# Altium schematic symbol library kmilo17pet-LT_PMIC_LT.SchLib: 2252 symbols (part 88 of 124)
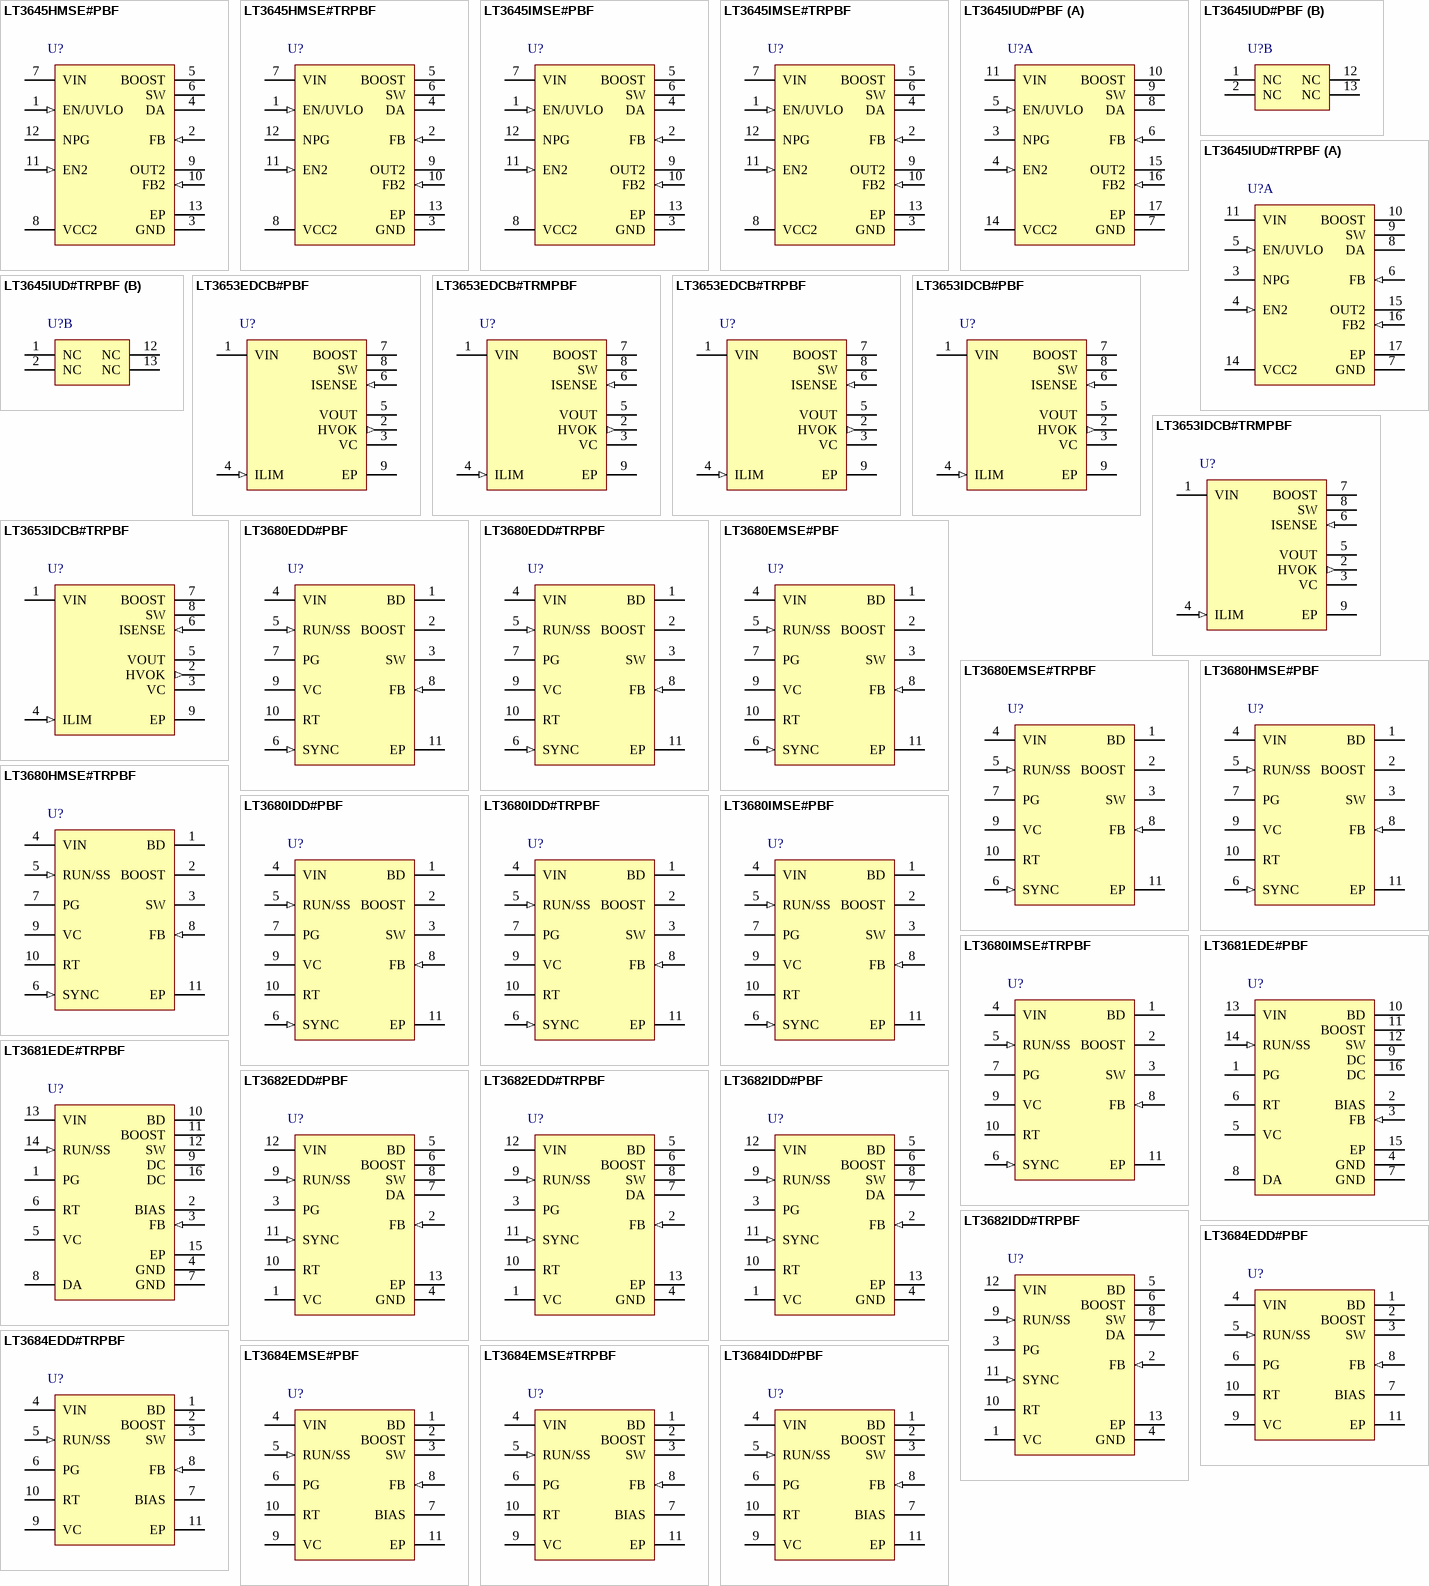
[diagram p158: symbols LT3645HMSE#PBF to LT3684IDD#PBF]

## LT3684EMSE#PBF
designator U?
2 A, 2.8 MHz Step-Down Switching Regulator, 10-pin SOP (MSE-10-EDP), -40 to 85 degC, Pb-Free; Manufacturer: Linear Technology; PartNumber: LT3684EMSE#PBF; Number of Outputs: 1; PackageReference: MSE-10; PackageDescription: 10-Pin Plastic MSOP, Exposed Die Pad, Body 3 x 3 mm, Pitch 0.5 mm; Supplier 1: Digi-Key; Supplier Part Number 1: LT3684EMSE#PBF-ND; RoHS: TRUE
footprint LT-MSE-10-EDP-2060x1830TP_N (SOP, 10-Leads, Body 3.1x3.1mm, Pitch 0.5mm, Thermal Pad 2.17x1.94mm, IPC Medium Density)
footprint LT-MSE-10-EDP-2060x1830TP_L (SOP, 10-Leads, Body 3.1x3.1mm, Pitch 0.5mm, Thermal Pad 2.17x1.94mm, IPC High Density)
footprint LT-MSE-10-EDP-2060x1830TP_M (SOP, 10-Leads, Body 3.1x3.1mm, Pitch 0.5mm, Thermal Pad 2.17x1.94mm, IPC Low Density)
pins: 1 BD (power) "This pin connects to the anode of the boost Schottky diode.", 2 BOOST "This pin is used to provide a drive voltage, higher than the input voltage, to the internal bipolar NPN power switch.", 3 SW (power) "The SW pin is the output of the internal power switch. Connect this pin to the inductor, catch diode and boost capacitor.", 4 VIN (power) "The VIN pin supplies current to the LT3684’s internal regulator and to the internal power switch. This pin must be locally bypassed.", 5 RUN/SS (in) "The RUN/SS pin is used to put the LT3684 in shutdown mode. Tie to ground to shut down the LT3684. Tie to 2.3V or more for normal operation. If the shutdown feature is not used, tie this pin to the VIN pin. RUN/SS also (See Datasheet)", 6 PG (oc) "The PG pin is the open collector output of an internal comparator. PG remains low until the FB pin is within 10% of the final regulation voltage. PG output is valid when VIN is above 3.5V and RUN/SS is high.", 7 BIAS (power) "The BIAS pin supplies the current to the LT3684’s internal regulator. Tie this pin to the lowest available voltage source above 3V (typically VOUT). This architecture increases effi ciency especially when the input voltag(See Datasheet)", 8 FB (in) "The LT3684 regulates the FB pin to 1.265V. Connect the feedback resistor divider tap to this pin.", 9 VC "The VC pin is the output of the internal error amplifier. The voltage on this pin controls the peak switch current. Tie an RC network from this pin to ground to compensate the control loop.", 10 RT "Oscillator Resistor Input. Connecting a resistor to ground from this pin sets the switching frequency.", 11 EP (power) "Ground. The Exposed Pad must be soldered to PCB."

## LT3684EMSE#TRPBF
designator U?
2 A, 2.8 MHz Step-Down Switching Regulator, 10-pin SOP (MSE-10-EDP), -40 to 85 degC, Pb-Free, Tape and Reel; Manufacturer: Linear Technology; PartNumber: LT3684EMSE#TRPBF; Number of Outputs: 1; PackageReference: MSE-10; PackageDescription: 10-Pin Plastic MSOP, Exposed Die Pad, Body 3 x 3 mm, Pitch 0.5 mm; Supplier 1: Digi-Key; Supplier Part Number 1: LT3684EMSE#TRPBF-ND; RoHS: TRUE
footprint LT-MSE-10-EDP-2060x1830TP_N (SOP, 10-Leads, Body 3.1x3.1mm, Pitch 0.5mm, Thermal Pad 2.17x1.94mm, IPC Medium Density)
footprint LT-MSE-10-EDP-2060x1830TP_L (SOP, 10-Leads, Body 3.1x3.1mm, Pitch 0.5mm, Thermal Pad 2.17x1.94mm, IPC High Density)
footprint LT-MSE-10-EDP-2060x1830TP_M (SOP, 10-Leads, Body 3.1x3.1mm, Pitch 0.5mm, Thermal Pad 2.17x1.94mm, IPC Low Density)
pins: 1 BD (power) "This pin connects to the anode of the boost Schottky diode.", 2 BOOST "This pin is used to provide a drive voltage, higher than the input voltage, to the internal bipolar NPN power switch.", 3 SW (power) "The SW pin is the output of the internal power switch. Connect this pin to the inductor, catch diode and boost capacitor.", 4 VIN (power) "The VIN pin supplies current to the LT3684’s internal regulator and to the internal power switch. This pin must be locally bypassed.", 5 RUN/SS (in) "The RUN/SS pin is used to put the LT3684 in shutdown mode. Tie to ground to shut down the LT3684. Tie to 2.3V or more for normal operation. If the shutdown feature is not used, tie this pin to the VIN pin. RUN/SS also (See Datasheet)", 6 PG (oc) "The PG pin is the open collector output of an internal comparator. PG remains low until the FB pin is within 10% of the final regulation voltage. PG output is valid when VIN is above 3.5V and RUN/SS is high.", 7 BIAS (power) "The BIAS pin supplies the current to the LT3684’s internal regulator. Tie this pin to the lowest available voltage source above 3V (typically VOUT). This architecture increases effi ciency especially when the input voltag(See Datasheet)", 8 FB (in) "The LT3684 regulates the FB pin to 1.265V. Connect the feedback resistor divider tap to this pin.", 9 VC "The VC pin is the output of the internal error amplifier. The voltage on this pin controls the peak switch current. Tie an RC network from this pin to ground to compensate the control loop.", 10 RT "Oscillator Resistor Input. Connecting a resistor to ground from this pin sets the switching frequency.", 11 EP (power) "Ground. The Exposed Pad must be soldered to PCB."

## LT3684IDD#PBF
designator U?
2 A, 2.8 MHz Step-Down Switching Regulator, 10-pin SON (DD-10), -40 to 125 degC, Pb-Free; Manufacturer: Linear Technology; PartNumber: LT3684IDD#PBF; Number of Outputs: 1; PackageReference: DD-10; PackageDescription: 10-Pin Plastic DFN, Body 3 x 3 mm, Pitch 0.5 mm; Supplier 1: Digi-Key; Supplier Part Number 1: LT3684IDD#PBF-ND; RoHS: TRUE
footprint LT-DD-10_V (SON, 10-Leads, Body 3x3mm, Pitch 0.5mm, Thermal Pad 2.38x1.65mm)
pins: 1 BD (power) "This pin connects to the anode of the boost Schottky diode.", 2 BOOST "This pin is used to provide a drive voltage, higher than the input voltage, to the internal bipolar NPN power switch.", 3 SW (power) "The SW pin is the output of the internal power switch. Connect this pin to the inductor, catch diode and boost capacitor.", 4 VIN (power) "The VIN pin supplies current to the LT3684’s internal regulator and to the internal power switch. This pin must be locally bypassed.", 5 RUN/SS (in) "The RUN/SS pin is used to put the LT3684 in shutdown mode. Tie to ground to shut down the LT3684. Tie to 2.3V or more for normal operation. If the shutdown feature is not used, tie this pin to the VIN pin. RUN/SS also (See Datasheet)", 6 PG (oc) "The PG pin is the open collector output of an internal comparator. PG remains low until the FB pin is within 10% of the final regulation voltage. PG output is valid when VIN is above 3.5V and RUN/SS is high.", 7 BIAS (power) "The BIAS pin supplies the current to the LT3684’s internal regulator. Tie this pin to the lowest available voltage source above 3V (typically VOUT). This architecture increases effi ciency especially when the input voltag(See Datasheet)", 8 FB (in) "The LT3684 regulates the FB pin to 1.265V. Connect the feedback resistor divider tap to this pin.", 9 VC "The VC pin is the output of the internal error amplifier. The voltage on this pin controls the peak switch current. Tie an RC network from this pin to ground to compensate the control loop.", 10 RT "Oscillator Resistor Input. Connecting a resistor to ground from this pin sets the switching frequency.", 11 EP (power) "Ground. The Exposed Pad must be soldered to PCB."

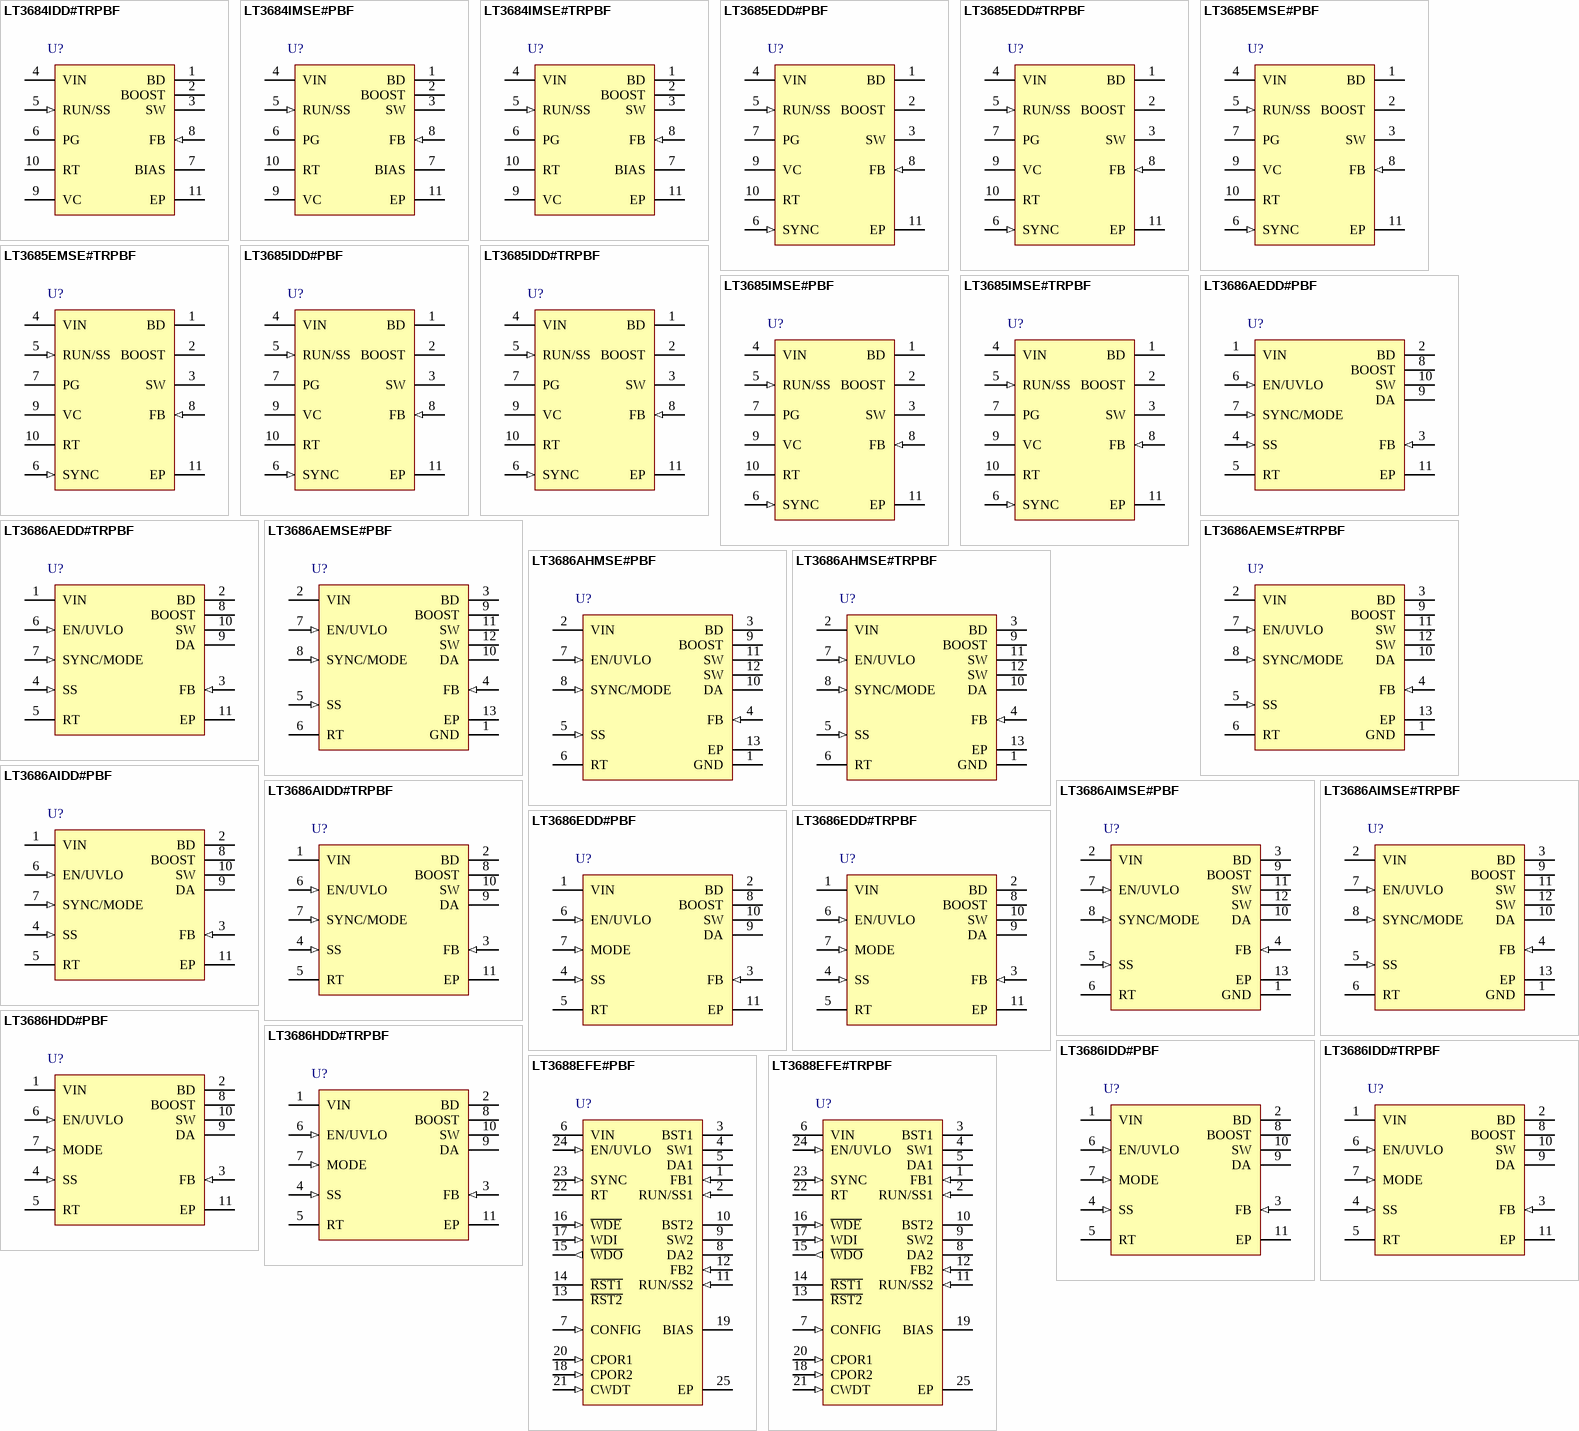
[diagram p52: symbols LT3684IDD#TRPBF to LT3688EFE#TRPBF]

## LT3684IDD#TRPBF
designator U?
2 A, 2.8 MHz Step-Down Switching Regulator, 10-pin SON (DD-10), -40 to 125 degC, Pb-Free, Tape and Reel; Manufacturer: Linear Technology; PartNumber: LT3684IDD#TRPBF; Number of Outputs: 1; PackageReference: DD-10; PackageDescription: 10-Pin Plastic DFN, Body 3 x 3 mm, Pitch 0.5 mm; Supplier 1: Digi-Key; Supplier Part Number 1: LT3684IDD#TRPBF-ND; RoHS: TRUE
footprint LT-DD-10_V (SON, 10-Leads, Body 3x3mm, Pitch 0.5mm, Thermal Pad 2.38x1.65mm)
pins: 1 BD (power) "This pin connects to the anode of the boost Schottky diode.", 2 BOOST "This pin is used to provide a drive voltage, higher than the input voltage, to the internal bipolar NPN power switch.", 3 SW (power) "The SW pin is the output of the internal power switch. Connect this pin to the inductor, catch diode and boost capacitor.", 4 VIN (power) "The VIN pin supplies current to the LT3684’s internal regulator and to the internal power switch. This pin must be locally bypassed.", 5 RUN/SS (in) "The RUN/SS pin is used to put the LT3684 in shutdown mode. Tie to ground to shut down the LT3684. Tie to 2.3V or more for normal operation. If the shutdown feature is not used, tie this pin to the VIN pin. RUN/SS also (See Datasheet)", 6 PG (oc) "The PG pin is the open collector output of an internal comparator. PG remains low until the FB pin is within 10% of the final regulation voltage. PG output is valid when VIN is above 3.5V and RUN/SS is high.", 7 BIAS (power) "The BIAS pin supplies the current to the LT3684’s internal regulator. Tie this pin to the lowest available voltage source above 3V (typically VOUT). This architecture increases effi ciency especially when the input voltag(See Datasheet)", 8 FB (in) "The LT3684 regulates the FB pin to 1.265V. Connect the feedback resistor divider tap to this pin.", 9 VC "The VC pin is the output of the internal error amplifier. The voltage on this pin controls the peak switch current. Tie an RC network from this pin to ground to compensate the control loop.", 10 RT "Oscillator Resistor Input. Connecting a resistor to ground from this pin sets the switching frequency.", 11 EP (power) "Ground. The Exposed Pad must be soldered to PCB."

## LT3684IMSE#PBF
designator U?
2 A, 2.8 MHz Step-Down Switching Regulator, 10-pin SOP (MSE-10-EDP), -40 to 125 degC, Pb-Free; Manufacturer: Linear Technology; PartNumber: LT3684IMSE#PBF; Number of Outputs: 1; PackageReference: MSE-10; PackageDescription: 10-Pin Plastic MSOP, Exposed Die Pad, Body 3 x 3 mm, Pitch 0.5 mm; Supplier 1: Digi-Key; Supplier Part Number 1: LT3684IMSE#PBF-ND; RoHS: TRUE
footprint LT-MSE-10-EDP-2060x1830TP_N (SOP, 10-Leads, Body 3.1x3.1mm, Pitch 0.5mm, Thermal Pad 2.17x1.94mm, IPC Medium Density)
footprint LT-MSE-10-EDP-2060x1830TP_L (SOP, 10-Leads, Body 3.1x3.1mm, Pitch 0.5mm, Thermal Pad 2.17x1.94mm, IPC High Density)
footprint LT-MSE-10-EDP-2060x1830TP_M (SOP, 10-Leads, Body 3.1x3.1mm, Pitch 0.5mm, Thermal Pad 2.17x1.94mm, IPC Low Density)
pins: 1 BD (power) "This pin connects to the anode of the boost Schottky diode.", 2 BOOST "This pin is used to provide a drive voltage, higher than the input voltage, to the internal bipolar NPN power switch.", 3 SW (power) "The SW pin is the output of the internal power switch. Connect this pin to the inductor, catch diode and boost capacitor.", 4 VIN (power) "The VIN pin supplies current to the LT3684’s internal regulator and to the internal power switch. This pin must be locally bypassed.", 5 RUN/SS (in) "The RUN/SS pin is used to put the LT3684 in shutdown mode. Tie to ground to shut down the LT3684. Tie to 2.3V or more for normal operation. If the shutdown feature is not used, tie this pin to the VIN pin. RUN/SS also (See Datasheet)", 6 PG (oc) "The PG pin is the open collector output of an internal comparator. PG remains low until the FB pin is within 10% of the final regulation voltage. PG output is valid when VIN is above 3.5V and RUN/SS is high.", 7 BIAS (power) "The BIAS pin supplies the current to the LT3684’s internal regulator. Tie this pin to the lowest available voltage source above 3V (typically VOUT). This architecture increases effi ciency especially when the input voltag(See Datasheet)", 8 FB (in) "The LT3684 regulates the FB pin to 1.265V. Connect the feedback resistor divider tap to this pin.", 9 VC "The VC pin is the output of the internal error amplifier. The voltage on this pin controls the peak switch current. Tie an RC network from this pin to ground to compensate the control loop.", 10 RT "Oscillator Resistor Input. Connecting a resistor to ground from this pin sets the switching frequency.", 11 EP (power) "Ground. The Exposed Pad must be soldered to PCB."

## LT3684IMSE#TRPBF
designator U?
2 A, 2.8 MHz Step-Down Switching Regulator, 10-pin SOP (MSE-10-EDP), -40 to 125 degC, Pb-Free, Tape and Reel; Manufacturer: Linear Technology; PartNumber: LT3684IMSE#TRPBF; Number of Outputs: 1; PackageReference: MSE-10; PackageDescription: 10-Pin Plastic MSOP, Exposed Die Pad, Body 3 x 3 mm, Pitch 0.5 mm; Supplier 1: Digi-Key; Supplier Part Number 1: LT3684IMSE#TRPBF-ND; RoHS: TRUE
footprint LT-MSE-10-EDP-2060x1830TP_N (SOP, 10-Leads, Body 3.1x3.1mm, Pitch 0.5mm, Thermal Pad 2.17x1.94mm, IPC Medium Density)
footprint LT-MSE-10-EDP-2060x1830TP_L (SOP, 10-Leads, Body 3.1x3.1mm, Pitch 0.5mm, Thermal Pad 2.17x1.94mm, IPC High Density)
footprint LT-MSE-10-EDP-2060x1830TP_M (SOP, 10-Leads, Body 3.1x3.1mm, Pitch 0.5mm, Thermal Pad 2.17x1.94mm, IPC Low Density)
pins: 1 BD (power) "This pin connects to the anode of the boost Schottky diode.", 2 BOOST "This pin is used to provide a drive voltage, higher than the input voltage, to the internal bipolar NPN power switch.", 3 SW (power) "The SW pin is the output of the internal power switch. Connect this pin to the inductor, catch diode and boost capacitor.", 4 VIN (power) "The VIN pin supplies current to the LT3684’s internal regulator and to the internal power switch. This pin must be locally bypassed.", 5 RUN/SS (in) "The RUN/SS pin is used to put the LT3684 in shutdown mode. Tie to ground to shut down the LT3684. Tie to 2.3V or more for normal operation. If the shutdown feature is not used, tie this pin to the VIN pin. RUN/SS also (See Datasheet)", 6 PG (oc) "The PG pin is the open collector output of an internal comparator. PG remains low until the FB pin is within 10% of the final regulation voltage. PG output is valid when VIN is above 3.5V and RUN/SS is high.", 7 BIAS (power) "The BIAS pin supplies the current to the LT3684’s internal regulator. Tie this pin to the lowest available voltage source above 3V (typically VOUT). This architecture increases effi ciency especially when the input voltag(See Datasheet)", 8 FB (in) "The LT3684 regulates the FB pin to 1.265V. Connect the feedback resistor divider tap to this pin.", 9 VC "The VC pin is the output of the internal error amplifier. The voltage on this pin controls the peak switch current. Tie an RC network from this pin to ground to compensate the control loop.", 10 RT "Oscillator Resistor Input. Connecting a resistor to ground from this pin sets the switching frequency.", 11 EP (power) "Ground. The Exposed Pad must be soldered to PCB."

## LT3685EDD#PBF
designator U?
2 A, 2.4 MHz Step Down Switching Regulator, 10-pin SON (DD-10), -40 to 125 degC, Pb-Free; Manufacturer: Linear Technology; PartNumber: LT3685EDD#PBF; Number of Outputs: 1; PackageReference: DD-10; PackageDescription: 10-Pin Plastic DFN, Body 3 x 3 mm, Pitch 0.5 mm; Supplier 1: Digi-Key; Supplier Part Number 1: LT3685EDD#PBF-ND; RoHS: TRUE
footprint LT-DD-10_V (SON, 10-Leads, Body 3x3mm, Pitch 0.5mm, Thermal Pad 2.38x1.65mm)
pins: 1 BD (power) "This pin connects to the anode of the boost Schottky diode. BD also supplies current to the internal regulator.", 2 BOOST "This pin is used to provide a drive voltage, higher than the input voltage, to the internal bipolar NPN power switch.", 3 SW (power) "The SW pin is the output of the internal power switch. Connect this pin to the inductor, catch diode and boost capacitor.", 4 VIN (power) "The VIN pin supplies current to internal regulator and to the internal power switch. This pin must be locally bypassed.", 5 RUN/SS (in) "If the shutdown feature is not used, tie this pin to the VIN pin. RUN/SS also provides a soft-start function; see the Applications Information section.", 6 SYNC (in) "This is the external clock synchronization input. Ground this pin for low ripple Burst Mode operation at low output loads. Tie to a clock source for synchronization. Clock edges should have rise and fall times faster than (See Datasheet)", 7 PG (oc) "The PG pin is the open collector output of an internal comparator. PG remains low until the FB pin is within 9% of the final regulation voltage. PG output is valid when VIN is above 3.6V and RUN/SS is high.", 8 FB (in) "Connect the feedback resistor divider tap to this pin.", 9 VC "The VC pin is the output of the internal error amplifier. The voltage on this pin controls the peak switch current. Tie an RC network from this pin to ground to compensate the control loop.", 10 RT "Oscillator Resistor Input. Connecting a resistor to ground from this pin sets the switching frequency.", 11 EP (power) "Ground. The Exposed Pad must be soldered to PCB."

## LT3685EDD#TRPBF
designator U?
2 A, 2.4 MHz Step Down Switching Regulator, 10-pin SON (DD-10), -40 to 125 degC, Pb-Free, Tape and Reel; Manufacturer: Linear Technology; PartNumber: LT3685EDD#TRPBF; Number of Outputs: 1; PackageReference: DD-10; PackageDescription: 10-Pin Plastic DFN, Body 3 x 3 mm, Pitch 0.5 mm; Supplier 1: Digi-Key; Supplier Part Number 1: LT3685EDD#TRPBF-ND; RoHS: TRUE
footprint LT-DD-10_V (SON, 10-Leads, Body 3x3mm, Pitch 0.5mm, Thermal Pad 2.38x1.65mm)
pins: 1 BD (power) "This pin connects to the anode of the boost Schottky diode. BD also supplies current to the internal regulator.", 2 BOOST "This pin is used to provide a drive voltage, higher than the input voltage, to the internal bipolar NPN power switch.", 3 SW (power) "The SW pin is the output of the internal power switch. Connect this pin to the inductor, catch diode and boost capacitor.", 4 VIN (power) "The VIN pin supplies current to internal regulator and to the internal power switch. This pin must be locally bypassed.", 5 RUN/SS (in) "If the shutdown feature is not used, tie this pin to the VIN pin. RUN/SS also provides a soft-start function; see the Applications Information section.", 6 SYNC (in) "This is the external clock synchronization input. Ground this pin for low ripple Burst Mode operation at low output loads. Tie to a clock source for synchronization. Clock edges should have rise and fall times faster than (See Datasheet)", 7 PG (oc) "The PG pin is the open collector output of an internal comparator. PG remains low until the FB pin is within 9% of the final regulation voltage. PG output is valid when VIN is above 3.6V and RUN/SS is high.", 8 FB (in) "Connect the feedback resistor divider tap to this pin.", 9 VC "The VC pin is the output of the internal error amplifier. The voltage on this pin controls the peak switch current. Tie an RC network from this pin to ground to compensate the control loop.", 10 RT "Oscillator Resistor Input. Connecting a resistor to ground from this pin sets the switching frequency.", 11 EP (power) "Ground. The Exposed Pad must be soldered to PCB."

## LT3685EMSE#PBF
designator U?
2 A, 2.4 MHz Step Down Switching Regulator, 10-pin SOP (MSE-10-EDP), -40 to 125 degC, Pb-Free; Manufacturer: Linear Technology; PartNumber: LT3685EMSE#PBF; Number of Outputs: 1; PackageReference: MSE-10; PackageDescription: 10-Pin Plastic MSOP, Exposed Die Pad, Body 3 x 3 mm, Pitch 0.5 mm; Supplier 1: Digi-Key; Supplier Part Number 1: LT3685EMSE#PBF-ND; RoHS: TRUE
footprint LT-MSE-10-EDP-2060x1830TP_N (SOP, 10-Leads, Body 3.1x3.1mm, Pitch 0.5mm, Thermal Pad 2.17x1.94mm, IPC Medium Density)
footprint LT-MSE-10-EDP-2060x1830TP_L (SOP, 10-Leads, Body 3.1x3.1mm, Pitch 0.5mm, Thermal Pad 2.17x1.94mm, IPC High Density)
footprint LT-MSE-10-EDP-2060x1830TP_M (SOP, 10-Leads, Body 3.1x3.1mm, Pitch 0.5mm, Thermal Pad 2.17x1.94mm, IPC Low Density)
pins: 1 BD (power) "This pin connects to the anode of the boost Schottky diode. BD also supplies current to the internal regulator.", 2 BOOST "This pin is used to provide a drive voltage, higher than the input voltage, to the internal bipolar NPN power switch.", 3 SW (power) "The SW pin is the output of the internal power switch. Connect this pin to the inductor, catch diode and boost capacitor.", 4 VIN (power) "The VIN pin supplies current to internal regulator and to the internal power switch. This pin must be locally bypassed.", 5 RUN/SS (in) "If the shutdown feature is not used, tie this pin to the VIN pin. RUN/SS also provides a soft-start function; see the Applications Information section.", 6 SYNC (in) "This is the external clock synchronization input. Ground this pin for low ripple Burst Mode operation at low output loads. Tie to a clock source for synchronization. Clock edges should have rise and fall times faster than (See Datasheet)", 7 PG (oc) "The PG pin is the open collector output of an internal comparator. PG remains low until the FB pin is within 9% of the final regulation voltage. PG output is valid when VIN is above 3.6V and RUN/SS is high.", 8 FB (in) "Connect the feedback resistor divider tap to this pin.", 9 VC "The VC pin is the output of the internal error amplifier. The voltage on this pin controls the peak switch current. Tie an RC network from this pin to ground to compensate the control loop.", 10 RT "Oscillator Resistor Input. Connecting a resistor to ground from this pin sets the switching frequency.", 11 EP (power) "Ground. The Exposed Pad must be soldered to PCB."

## LT3685EMSE#TRPBF
designator U?
2 A, 2.4 MHz Step Down Switching Regulator, 10-pin SOP (MSE-10-EDP), -40 to 125 degC, Pb-Free, Tape and Reel; Manufacturer: Linear Technology; PartNumber: LT3685EMSE#TRPBF; Number of Outputs: 1; PackageReference: MSE-10; PackageDescription: 10-Pin Plastic MSOP, Exposed Die Pad, Body 3 x 3 mm, Pitch 0.5 mm; Supplier 1: Digi-Key; Supplier Part Number 1: LT3685EMSE#TRPBF-ND; RoHS: TRUE
footprint LT-MSE-10-EDP-2060x1830TP_N (SOP, 10-Leads, Body 3.1x3.1mm, Pitch 0.5mm, Thermal Pad 2.17x1.94mm, IPC Medium Density)
footprint LT-MSE-10-EDP-2060x1830TP_L (SOP, 10-Leads, Body 3.1x3.1mm, Pitch 0.5mm, Thermal Pad 2.17x1.94mm, IPC High Density)
footprint LT-MSE-10-EDP-2060x1830TP_M (SOP, 10-Leads, Body 3.1x3.1mm, Pitch 0.5mm, Thermal Pad 2.17x1.94mm, IPC Low Density)
pins: 1 BD (power) "This pin connects to the anode of the boost Schottky diode. BD also supplies current to the internal regulator.", 2 BOOST "This pin is used to provide a drive voltage, higher than the input voltage, to the internal bipolar NPN power switch.", 3 SW (power) "The SW pin is the output of the internal power switch. Connect this pin to the inductor, catch diode and boost capacitor.", 4 VIN (power) "The VIN pin supplies current to internal regulator and to the internal power switch. This pin must be locally bypassed.", 5 RUN/SS (in) "If the shutdown feature is not used, tie this pin to the VIN pin. RUN/SS also provides a soft-start function; see the Applications Information section.", 6 SYNC (in) "This is the external clock synchronization input. Ground this pin for low ripple Burst Mode operation at low output loads. Tie to a clock source for synchronization. Clock edges should have rise and fall times faster than (See Datasheet)", 7 PG (oc) "The PG pin is the open collector output of an internal comparator. PG remains low until the FB pin is within 9% of the final regulation voltage. PG output is valid when VIN is above 3.6V and RUN/SS is high.", 8 FB (in) "Connect the feedback resistor divider tap to this pin.", 9 VC "The VC pin is the output of the internal error amplifier. The voltage on this pin controls the peak switch current. Tie an RC network from this pin to ground to compensate the control loop.", 10 RT "Oscillator Resistor Input. Connecting a resistor to ground from this pin sets the switching frequency.", 11 EP (power) "Ground. The Exposed Pad must be soldered to PCB."

## LT3685IDD#PBF
designator U?
2 A, 2.4 MHz Step Down Switching Regulator, 10-pin SON (DD-10), -40 to 125 degC, Pb-Free; Manufacturer: Linear Technology; PartNumber: LT3685IDD#PBF; Number of Outputs: 1; PackageReference: DD-10; PackageDescription: 10-Pin Plastic DFN, Body 3 x 3 mm, Pitch 0.5 mm; Supplier 1: Digi-Key; Supplier Part Number 1: LT3685IDD#PBF-ND; RoHS: TRUE
footprint LT-DD-10_V (SON, 10-Leads, Body 3x3mm, Pitch 0.5mm, Thermal Pad 2.38x1.65mm)
pins: 1 BD (power) "This pin connects to the anode of the boost Schottky diode. BD also supplies current to the internal regulator.", 2 BOOST "This pin is used to provide a drive voltage, higher than the input voltage, to the internal bipolar NPN power switch.", 3 SW (power) "The SW pin is the output of the internal power switch. Connect this pin to the inductor, catch diode and boost capacitor.", 4 VIN (power) "The VIN pin supplies current to internal regulator and to the internal power switch. This pin must be locally bypassed.", 5 RUN/SS (in) "If the shutdown feature is not used, tie this pin to the VIN pin. RUN/SS also provides a soft-start function; see the Applications Information section.", 6 SYNC (in) "This is the external clock synchronization input. Ground this pin for low ripple Burst Mode operation at low output loads. Tie to a clock source for synchronization. Clock edges should have rise and fall times faster than (See Datasheet)", 7 PG (oc) "The PG pin is the open collector output of an internal comparator. PG remains low until the FB pin is within 9% of the final regulation voltage. PG output is valid when VIN is above 3.6V and RUN/SS is high.", 8 FB (in) "Connect the feedback resistor divider tap to this pin.", 9 VC "The VC pin is the output of the internal error amplifier. The voltage on this pin controls the peak switch current. Tie an RC network from this pin to ground to compensate the control loop.", 10 RT "Oscillator Resistor Input. Connecting a resistor to ground from this pin sets the switching frequency.", 11 EP (power) "Ground. The Exposed Pad must be soldered to PCB."

## LT3685IDD#TRPBF
designator U?
2 A, 2.4 MHz Step Down Switching Regulator, 10-pin SON (DD-10), -40 to 125 degC, Pb-Free, Tape and Reel; Manufacturer: Linear Technology; PartNumber: LT3685IDD#TRPBF; Number of Outputs: 1; PackageReference: DD-10; PackageDescription: 10-Pin Plastic DFN, Body 3 x 3 mm, Pitch 0.5 mm; Supplier 1: Digi-Key; Supplier Part Number 1: LT3685IDD#TRPBF-ND; RoHS: TRUE
footprint LT-DD-10_V (SON, 10-Leads, Body 3x3mm, Pitch 0.5mm, Thermal Pad 2.38x1.65mm)
pins: 1 BD (power) "This pin connects to the anode of the boost Schottky diode. BD also supplies current to the internal regulator.", 2 BOOST "This pin is used to provide a drive voltage, higher than the input voltage, to the internal bipolar NPN power switch.", 3 SW (power) "The SW pin is the output of the internal power switch. Connect this pin to the inductor, catch diode and boost capacitor.", 4 VIN (power) "The VIN pin supplies current to internal regulator and to the internal power switch. This pin must be locally bypassed.", 5 RUN/SS (in) "If the shutdown feature is not used, tie this pin to the VIN pin. RUN/SS also provides a soft-start function; see the Applications Information section.", 6 SYNC (in) "This is the external clock synchronization input. Ground this pin for low ripple Burst Mode operation at low output loads. Tie to a clock source for synchronization. Clock edges should have rise and fall times faster than (See Datasheet)", 7 PG (oc) "The PG pin is the open collector output of an internal comparator. PG remains low until the FB pin is within 9% of the final regulation voltage. PG output is valid when VIN is above 3.6V and RUN/SS is high.", 8 FB (in) "Connect the feedback resistor divider tap to this pin.", 9 VC "The VC pin is the output of the internal error amplifier. The voltage on this pin controls the peak switch current. Tie an RC network from this pin to ground to compensate the control loop.", 10 RT "Oscillator Resistor Input. Connecting a resistor to ground from this pin sets the switching frequency.", 11 EP (power) "Ground. The Exposed Pad must be soldered to PCB."

## LT3685IMSE#PBF
designator U?
2 A, 2.4 MHz Step Down Switching Regulator, 10-pin SOP (MSE-10-EDP), -40 to 125 degC, Pb-Free; Manufacturer: Linear Technology; PartNumber: LT3685IMSE#PBF; Number of Outputs: 1; PackageReference: MSE-10; PackageDescription: 10-Pin Plastic MSOP, Exposed Die Pad, Body 3 x 3 mm, Pitch 0.5 mm; Supplier 1: Digi-Key; Supplier Part Number 1: LT3685IMSE#PBF-ND; RoHS: TRUE
footprint LT-MSE-10-EDP-2060x1830TP_N (SOP, 10-Leads, Body 3.1x3.1mm, Pitch 0.5mm, Thermal Pad 2.17x1.94mm, IPC Medium Density)
footprint LT-MSE-10-EDP-2060x1830TP_L (SOP, 10-Leads, Body 3.1x3.1mm, Pitch 0.5mm, Thermal Pad 2.17x1.94mm, IPC High Density)
footprint LT-MSE-10-EDP-2060x1830TP_M (SOP, 10-Leads, Body 3.1x3.1mm, Pitch 0.5mm, Thermal Pad 2.17x1.94mm, IPC Low Density)
pins: 1 BD (power) "This pin connects to the anode of the boost Schottky diode. BD also supplies current to the internal regulator.", 2 BOOST "This pin is used to provide a drive voltage, higher than the input voltage, to the internal bipolar NPN power switch.", 3 SW (power) "The SW pin is the output of the internal power switch. Connect this pin to the inductor, catch diode and boost capacitor.", 4 VIN (power) "The VIN pin supplies current to internal regulator and to the internal power switch. This pin must be locally bypassed.", 5 RUN/SS (in) "If the shutdown feature is not used, tie this pin to the VIN pin. RUN/SS also provides a soft-start function; see the Applications Information section.", 6 SYNC (in) "This is the external clock synchronization input. Ground this pin for low ripple Burst Mode operation at low output loads. Tie to a clock source for synchronization. Clock edges should have rise and fall times faster than (See Datasheet)", 7 PG (oc) "The PG pin is the open collector output of an internal comparator. PG remains low until the FB pin is within 9% of the final regulation voltage. PG output is valid when VIN is above 3.6V and RUN/SS is high.", 8 FB (in) "Connect the feedback resistor divider tap to this pin.", 9 VC "The VC pin is the output of the internal error amplifier. The voltage on this pin controls the peak switch current. Tie an RC network from this pin to ground to compensate the control loop.", 10 RT "Oscillator Resistor Input. Connecting a resistor to ground from this pin sets the switching frequency.", 11 EP (power) "Ground. The Exposed Pad must be soldered to PCB."

## LT3685IMSE#TRPBF
designator U?
2 A, 2.4 MHz Step Down Switching Regulator, 10-pin SOP (MSE-10-EDP), -40 to 125 degC, Pb-Free, Tape and Reel; Manufacturer: Linear Technology; PartNumber: LT3685IMSE#TRPBF; Number of Outputs: 1; PackageReference: MSE-10; PackageDescription: 10-Pin Plastic MSOP, Exposed Die Pad, Body 3 x 3 mm, Pitch 0.5 mm; Supplier 1: Digi-Key; Supplier Part Number 1: LT3685IMSE#TRPBF-ND; RoHS: TRUE
footprint LT-MSE-10-EDP-2060x1830TP_N (SOP, 10-Leads, Body 3.1x3.1mm, Pitch 0.5mm, Thermal Pad 2.17x1.94mm, IPC Medium Density)
footprint LT-MSE-10-EDP-2060x1830TP_L (SOP, 10-Leads, Body 3.1x3.1mm, Pitch 0.5mm, Thermal Pad 2.17x1.94mm, IPC High Density)
footprint LT-MSE-10-EDP-2060x1830TP_M (SOP, 10-Leads, Body 3.1x3.1mm, Pitch 0.5mm, Thermal Pad 2.17x1.94mm, IPC Low Density)
pins: 1 BD (power) "This pin connects to the anode of the boost Schottky diode. BD also supplies current to the internal regulator.", 2 BOOST "This pin is used to provide a drive voltage, higher than the input voltage, to the internal bipolar NPN power switch.", 3 SW (power) "The SW pin is the output of the internal power switch. Connect this pin to the inductor, catch diode and boost capacitor.", 4 VIN (power) "The VIN pin supplies current to internal regulator and to the internal power switch. This pin must be locally bypassed.", 5 RUN/SS (in) "If the shutdown feature is not used, tie this pin to the VIN pin. RUN/SS also provides a soft-start function; see the Applications Information section.", 6 SYNC (in) "This is the external clock synchronization input. Ground this pin for low ripple Burst Mode operation at low output loads. Tie to a clock source for synchronization. Clock edges should have rise and fall times faster than (See Datasheet)", 7 PG (oc) "The PG pin is the open collector output of an internal comparator. PG remains low until the FB pin is within 9% of the final regulation voltage. PG output is valid when VIN is above 3.6V and RUN/SS is high.", 8 FB (in) "Connect the feedback resistor divider tap to this pin.", 9 VC "The VC pin is the output of the internal error amplifier. The voltage on this pin controls the peak switch current. Tie an RC network from this pin to ground to compensate the control loop.", 10 RT "Oscillator Resistor Input. Connecting a resistor to ground from this pin sets the switching frequency.", 11 EP (power) "Ground. The Exposed Pad must be soldered to PCB."

## LT3686AEDD#PBF
designator U?
1.2 A Step-Down Regulator, 10-pin SON (DD-10), -40 to 125 degC, Pb-Free; Manufacturer: Linear Technology; PartNumber: LT3686AEDD#PBF; Number of Outputs: 1; PackageReference: DD-10; PackageDescription: 10-Pin Plastic DFN, Body 3 x 3 mm, Pitch 0.5 mm; Supplier 1: Digi-Key; Supplier Part Number 1: LT3686AEDD#PBF-ND; RoHS: TRUE
footprint LT-DD-10_V (SON, 10-Leads, Body 3x3mm, Pitch 0.5mm, Thermal Pad 2.38x1.65mm)
pins: 1 VIN (power) "The VIN pin supplies current to theLT3686A’s internal regulator and to the internal power switch. This pin must be locally bypassed.", 2 BD (power) "When the SYNC/MODE Pin is driven with clock pulses or tied greater than 0.8V, the LT3686A will prevent pulse-skipping at light loads by regulating an active load on the BD pin; see Applications Information section Fixed (See Datasheet)", 3 FB (in) "The LT3686A regulates its feedback pin to 0.8V. Connect the feedback resistor divider tap to this pin. Set the output voltage according to VOUT = 0.8(1 + R1/R2). A good value for R2 is 10k.", 4 SS (in) "Provides Soft-Start and Tracking. An internal 2uA current source tied to a 2.5V reference supplies current to this pin to charge an external capacitor to create a voltage ramp at the pin. Feedback voltage and switching (See Datasheet)", 5 RT "The RT pin is used to program the oscillator frequency. Select the value of RT resistor according to Table 1 in the applications section of the data sheet.", 6 EN/UVLO (in) "The EN/UVLO pin is used to start up the LT3686A. Pull the pin below 0.4V to shutdown theLT3686A. The 1.27V threshold can function as an accurate undervoltagelockout (UVLO), preventing the regulator from operating until the (See Datasheet)", 7 SYNC/MODE (in) "The SYNC/MODE pin is used to synchronize the internal oscillator of the LT3686A to an external signal. The SYNC signal can be driven by am signal with pulse width of at least 200ns on and off time. The SYNC/MODE Pin also (See Datasheet)", 8 BOOST "The BOOST pin is used to provide a drive voltage, higher than the input voltage, to the internal bipolar NPN power switch.", 9 DA "Connect catch diode (D1) anode to this pin.", 10 SW (power) "The SW pin is the output of the internal power switch. Connect this pin to the inductor, catch diode and boost capacitor.", 11 EP (power) "The exposed pad GND pin is the only ground connection for the device. The exposed pad should be soldered to a large copper area to reduce thermal resistance."

## LT3686AEDD#TRPBF
designator U?
1.2 A Step-Down Regulator, 10-pin SON (DD-10), -40 to 125 degC, Pb-Free, Tape and Reel; Manufacturer: Linear Technology; PartNumber: LT3686AEDD#TRPBF; Number of Outputs: 1; PackageReference: DD-10; PackageDescription: 10-Pin Plastic DFN, Body 3 x 3 mm, Pitch 0.5 mm; Supplier 1: Digi-Key; Supplier Part Number 1: LT3686AEDD#TRPBF-ND; RoHS: TRUE
footprint LT-DD-10_V (SON, 10-Leads, Body 3x3mm, Pitch 0.5mm, Thermal Pad 2.38x1.65mm)
pins: 1 VIN (power) "The VIN pin supplies current to theLT3686A’s internal regulator and to the internal power switch. This pin must be locally bypassed.", 2 BD (power) "When the SYNC/MODE Pin is driven with clock pulses or tied greater than 0.8V, the LT3686A will prevent pulse-skipping at light loads by regulating an active load on the BD pin; see Applications Information section Fixed (See Datasheet)", 3 FB (in) "The LT3686A regulates its feedback pin to 0.8V. Connect the feedback resistor divider tap to this pin. Set the output voltage according to VOUT = 0.8(1 + R1/R2). A good value for R2 is 10k.", 4 SS (in) "Provides Soft-Start and Tracking. An internal 2uA current source tied to a 2.5V reference supplies current to this pin to charge an external capacitor to create a voltage ramp at the pin. Feedback voltage and switching (See Datasheet)", 5 RT "The RT pin is used to program the oscillator frequency. Select the value of RT resistor according to Table 1 in the applications section of the data sheet.", 6 EN/UVLO (in) "The EN/UVLO pin is used to start up the LT3686A. Pull the pin below 0.4V to shutdown theLT3686A. The 1.27V threshold can function as an accurate undervoltagelockout (UVLO), preventing the regulator from operating until the (See Datasheet)", 7 SYNC/MODE (in) "The SYNC/MODE pin is used to synchronize the internal oscillator of the LT3686A to an external signal. The SYNC signal can be driven by am signal with pulse width of at least 200ns on and off time. The SYNC/MODE Pin also (See Datasheet)", 8 BOOST "The BOOST pin is used to provide a drive voltage, higher than the input voltage, to the internal bipolar NPN power switch.", 9 DA "Connect catch diode (D1) anode to this pin.", 10 SW (power) "The SW pin is the output of the internal power switch. Connect this pin to the inductor, catch diode and boost capacitor.", 11 EP (power) "The exposed pad GND pin is the only ground connection for the device. The exposed pad should be soldered to a large copper area to reduce thermal resistance."

## LT3686AEMSE#PBF
designator U?
1.2 A Step-Down Regulator, 12-pin SOP (MSE-12-EDP), -40 to 125 degC, Pb-Free; Manufacturer: Linear Technology; PartNumber: LT3686AEMSE#PBF; Number of Outputs: 1; PackageReference: MSE-12-EDP; PackageDescription: 12-Pin Plastic MSOP, Exposed Die Pad, Body 4.039 x 3 mm, Pitch 0.65 mm; Supplier 1: Digi-Key; Supplier Part Number 1: LT3686AEMSE#PBF-ND; RoHS: TRUE
footprint LT-MSE-12-EDP_N (SOP, 12-Leads, Body 4.1x3.1mm, Pitch 0.65mm, Thermal Pad 2.95x1.76mm, IPC Medium Density)
footprint LT-MSE-12-EDP_L (SOP, 12-Leads, Body 4.1x3.1mm, Pitch 0.65mm, Thermal Pad 2.95x1.76mm, IPC High Density)
footprint LT-MSE-12-EDP_M (SOP, 12-Leads, Body 4.1x3.1mm, Pitch 0.65mm, Thermal Pad 2.95x1.76mm, IPC Low Density)
pins: 1 GND (power) "The exposed pad GND pin is the only ground connection for the device. The exposed pad should be soldered to a large copper area to reduce thermal resistance.", 2 VIN (power) "The VIN pin supplies current to the LT3686A's internal regulator and to the internal power switch. This pin must be locally bypassed.", 3 BD (power) "When the SYNC/MODE Pin is driven with clock pulses or tied greater than 0.8V, the LT3686A will prevent pulse-skipping at light loads by regulating an active load on the BD pin; see Applications Information section Fixed (See Datasheet)", 4 FB (in) "The LT3686A regulates its feedback pin to 0.8V. Connect the feedback resistor divider tap to this pin. Set the output voltage according to: R1=R2( VOUT/ 0.8V - 1)  A good value for R2 is 10k.", 5 SS (in) "Provides Soft-Start and Tracking. An internal 2uA current source tied to a 2.5V reference supplies current to this pin to charge an external capacitor to create a voltage ramp at the pin. Feedback voltage and switching (See Datasheet)", 6 RT "The RT pin is used to program the oscillator frequency. Select the value of RT resistor according to table 1 in the applications section of the data sheet.", 7 EN/UVLO (in) "The EN/UVLO pin is used to start up the LT3686A. Pull the pin below 0.4V to shutdown the LT3686A. The 1.28V threshold can function as an accurate undervoltage lockout (UVLO), preventing the regulator from operating until the (See Datasheet)", 8 SYNC/MODE (in) "The SYNC/MODE pin is used to synchronize the internal oscillator of the LT3686A to an external signal. The SYNC signal can be driven by a signal with pulse width of at least 200ns on and off time. The SYNC/MODE Pin also acts (See Datasheet)", 9 BOOST "The BOOST pin is used to provide a drive voltage, higher than the input voltage, to the internal bipolar NPN power switch.", 10 DA "Connect catch diode (D1) anode to this pin.", 11 SW (power) "The SW pin is the output of the internal power switch. Connect this pin to the inductor, catch diode and boost capacitor.", 12 SW (power) "The SW pin is the output of the internal power switch. Connect this pin to the inductor, catch diode and boost capacitor.", 13 EP (power) "The exposed pad GND pin is the only ground connection for the device. The exposed pad should be soldered to a large copper area to reduce thermal resistance."

## LT3686AEMSE#TRPBF
designator U?
1.2 A Step-Down Regulator, 12-pin SOP (MSE-12-EDP), -40 to 125 degC, Pb-Free, Tape and Reel; Manufacturer: Linear Technology; PartNumber: LT3686AEMSE#TRPBF; Number of Outputs: 1; PackageReference: MSE-12-EDP; PackageDescription: 12-Pin Plastic MSOP, Exposed Die Pad, Body 4.039 x 3 mm, Pitch 0.65 mm; Supplier 1: Digi-Key; Supplier Part Number 1: LT3686AEMSE#TRPBF-ND; RoHS: TRUE
footprint LT-MSE-12-EDP_N (SOP, 12-Leads, Body 4.1x3.1mm, Pitch 0.65mm, Thermal Pad 2.95x1.76mm, IPC Medium Density)
footprint LT-MSE-12-EDP_L (SOP, 12-Leads, Body 4.1x3.1mm, Pitch 0.65mm, Thermal Pad 2.95x1.76mm, IPC High Density)
footprint LT-MSE-12-EDP_M (SOP, 12-Leads, Body 4.1x3.1mm, Pitch 0.65mm, Thermal Pad 2.95x1.76mm, IPC Low Density)
pins: 1 GND (power) "The exposed pad GND pin is the only ground connection for the device. The exposed pad should be soldered to a large copper area to reduce thermal resistance.", 2 VIN (power) "The VIN pin supplies current to the LT3686A's internal regulator and to the internal power switch. This pin must be locally bypassed.", 3 BD (power) "When the SYNC/MODE Pin is driven with clock pulses or tied greater than 0.8V, the LT3686A will prevent pulse-skipping at light loads by regulating an active load on the BD pin; see Applications Information section Fixed (See Datasheet)", 4 FB (in) "The LT3686A regulates its feedback pin to 0.8V. Connect the feedback resistor divider tap to this pin. Set the output voltage according to: R1=R2( VOUT/ 0.8V - 1)  A good value for R2 is 10k.", 5 SS (in) "Provides Soft-Start and Tracking. An internal 2uA current source tied to a 2.5V reference supplies current to this pin to charge an external capacitor to create a voltage ramp at the pin. Feedback voltage and switching (See Datasheet)", 6 RT "The RT pin is used to program the oscillator frequency. Select the value of RT resistor according to table 1 in the applications section of the data sheet.", 7 EN/UVLO (in) "The EN/UVLO pin is used to start up the LT3686A. Pull the pin below 0.4V to shutdown the LT3686A. The 1.28V threshold can function as an accurate undervoltage lockout (UVLO), preventing the regulator from operating until the (See Datasheet)", 8 SYNC/MODE (in) "The SYNC/MODE pin is used to synchronize the internal oscillator of the LT3686A to an external signal. The SYNC signal can be driven by a signal with pulse width of at least 200ns on and off time. The SYNC/MODE Pin also acts (See Datasheet)", 9 BOOST "The BOOST pin is used to provide a drive voltage, higher than the input voltage, to the internal bipolar NPN power switch.", 10 DA "Connect catch diode (D1) anode to this pin.", 11 SW (power) "The SW pin is the output of the internal power switch. Connect this pin to the inductor, catch diode and boost capacitor.", 12 SW (power) "The SW pin is the output of the internal power switch. Connect this pin to the inductor, catch diode and boost capacitor.", 13 EP (power) "The exposed pad GND pin is the only ground connection for the device. The exposed pad should be soldered to a large copper area to reduce thermal resistance."

## LT3686AHMSE#PBF
designator U?
1.2 A Step-Down Regulator, 12-pin SOP (MSE-12-EDP), -40 to 150 degC, Pb-Free; Manufacturer: Linear Technology; PartNumber: LT3686AHMSE#PBF; Number of Outputs: 1; PackageReference: MSE-12-EDP; PackageDescription: 12-Pin Plastic MSOP, Exposed Die Pad, Body 4.039 x 3 mm, Pitch 0.65 mm; Supplier 1: Digi-Key; Supplier Part Number 1: LT3686AHMSE#PBF-ND; RoHS: TRUE
footprint LT-MSE-12-EDP_N (SOP, 12-Leads, Body 4.1x3.1mm, Pitch 0.65mm, Thermal Pad 2.95x1.76mm, IPC Medium Density)
footprint LT-MSE-12-EDP_L (SOP, 12-Leads, Body 4.1x3.1mm, Pitch 0.65mm, Thermal Pad 2.95x1.76mm, IPC High Density)
footprint LT-MSE-12-EDP_M (SOP, 12-Leads, Body 4.1x3.1mm, Pitch 0.65mm, Thermal Pad 2.95x1.76mm, IPC Low Density)
pins: 1 GND (power) "The exposed pad GND pin is the only ground connection for the device. The exposed pad should be soldered to a large copper area to reduce thermal resistance.", 2 VIN (power) "The VIN pin supplies current to the LT3686A's internal regulator and to the internal power switch. This pin must be locally bypassed.", 3 BD (power) "When the SYNC/MODE Pin is driven with clock pulses or tied greater than 0.8V, the LT3686A will prevent pulse-skipping at light loads by regulating an active load on the BD pin; see Applications Information section Fixed (See Datasheet)", 4 FB (in) "The LT3686A regulates its feedback pin to 0.8V. Connect the feedback resistor divider tap to this pin. Set the output voltage according to: R1=R2( VOUT/ 0.8V - 1)  A good value for R2 is 10k.", 5 SS (in) "Provides Soft-Start and Tracking. An internal 2uA current source tied to a 2.5V reference supplies current to this pin to charge an external capacitor to create a voltage ramp at the pin. Feedback voltage and switching (See Datasheet)", 6 RT "The RT pin is used to program the oscillator frequency. Select the value of RT resistor according to table 1 in the applications section of the data sheet.", 7 EN/UVLO (in) "The EN/UVLO pin is used to start up the LT3686A. Pull the pin below 0.4V to shutdown the LT3686A. The 1.28V threshold can function as an accurate undervoltage lockout (UVLO), preventing the regulator from operating until the (See Datasheet)", 8 SYNC/MODE (in) "The SYNC/MODE pin is used to synchronize the internal oscillator of the LT3686A to an external signal. The SYNC signal can be driven by a signal with pulse width of at least 200ns on and off time. The SYNC/MODE Pin also acts (See Datasheet)", 9 BOOST "The BOOST pin is used to provide a drive voltage, higher than the input voltage, to the internal bipolar NPN power switch.", 10 DA "Connect catch diode (D1) anode to this pin.", 11 SW (power) "The SW pin is the output of the internal power switch. Connect this pin to the inductor, catch diode and boost capacitor.", 12 SW (power) "The SW pin is the output of the internal power switch. Connect this pin to the inductor, catch diode and boost capacitor.", 13 EP (power) "The exposed pad GND pin is the only ground connection for the device. The exposed pad should be soldered to a large copper area to reduce thermal resistance."

## LT3686AHMSE#TRPBF
designator U?
1.2 A Step-Down Regulator, 12-pin SOP (MSE-12-EDP), -40 to 150 degC, Pb-Free, Tape and Reel; Manufacturer: Linear Technology; PartNumber: LT3686AHMSE#TRPBF; Number of Outputs: 1; PackageReference: MSE-12-EDP; PackageDescription: 12-Pin Plastic MSOP, Exposed Die Pad, Body 4.039 x 3 mm, Pitch 0.65 mm; Supplier 1: Digi-Key; Supplier Part Number 1: LT3686AHMSE#TRPBF-ND; RoHS: TRUE
footprint LT-MSE-12-EDP_N (SOP, 12-Leads, Body 4.1x3.1mm, Pitch 0.65mm, Thermal Pad 2.95x1.76mm, IPC Medium Density)
footprint LT-MSE-12-EDP_L (SOP, 12-Leads, Body 4.1x3.1mm, Pitch 0.65mm, Thermal Pad 2.95x1.76mm, IPC High Density)
footprint LT-MSE-12-EDP_M (SOP, 12-Leads, Body 4.1x3.1mm, Pitch 0.65mm, Thermal Pad 2.95x1.76mm, IPC Low Density)
pins: 1 GND (power) "The exposed pad GND pin is the only ground connection for the device. The exposed pad should be soldered to a large copper area to reduce thermal resistance.", 2 VIN (power) "The VIN pin supplies current to the LT3686A's internal regulator and to the internal power switch. This pin must be locally bypassed.", 3 BD (power) "When the SYNC/MODE Pin is driven with clock pulses or tied greater than 0.8V, the LT3686A will prevent pulse-skipping at light loads by regulating an active load on the BD pin; see Applications Information section Fixed (See Datasheet)", 4 FB (in) "The LT3686A regulates its feedback pin to 0.8V. Connect the feedback resistor divider tap to this pin. Set the output voltage according to: R1=R2( VOUT/ 0.8V - 1)  A good value for R2 is 10k.", 5 SS (in) "Provides Soft-Start and Tracking. An internal 2uA current source tied to a 2.5V reference supplies current to this pin to charge an external capacitor to create a voltage ramp at the pin. Feedback voltage and switching (See Datasheet)", 6 RT "The RT pin is used to program the oscillator frequency. Select the value of RT resistor according to table 1 in the applications section of the data sheet.", 7 EN/UVLO (in) "The EN/UVLO pin is used to start up the LT3686A. Pull the pin below 0.4V to shutdown the LT3686A. The 1.28V threshold can function as an accurate undervoltage lockout (UVLO), preventing the regulator from operating until the (See Datasheet)", 8 SYNC/MODE (in) "The SYNC/MODE pin is used to synchronize the internal oscillator of the LT3686A to an external signal. The SYNC signal can be driven by a signal with pulse width of at least 200ns on and off time. The SYNC/MODE Pin also acts (See Datasheet)", 9 BOOST "The BOOST pin is used to provide a drive voltage, higher than the input voltage, to the internal bipolar NPN power switch.", 10 DA "Connect catch diode (D1) anode to this pin.", 11 SW (power) "The SW pin is the output of the internal power switch. Connect this pin to the inductor, catch diode and boost capacitor.", 12 SW (power) "The SW pin is the output of the internal power switch. Connect this pin to the inductor, catch diode and boost capacitor.", 13 EP (power) "The exposed pad GND pin is the only ground connection for the device. The exposed pad should be soldered to a large copper area to reduce thermal resistance."